# Altium schematic symbol library Conn_Molex_90120-0764_eec.SchLib: 1 symbol
Pins are listed as number, name and electrical type; pins without a type are passive.

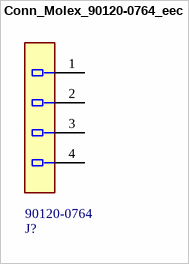
[diagram p0: symbol Conn_Molex_90120-0764_eec]

## Conn_Molex_90120-0764_eec
designator J?  Part Number: 90120-0764
CONN 4 Positions Header, Breakaway Connector 0.100" (2.54mm) Through Hole Gold; Manufacturer: Molex; Current - Maximum per Contact: 3.0A; Number of Positions: 4; Contact Length - Post: 2.90mm; Contact Length - Mating: 6.75mm; Voltage - Maximum: 350V; helpURL: https://upverter.com/upn/revision/abd89bfd3815e4cd/; ComponentLink2Description: Datasheet; Temperature: -55°C to +125°C; Package: HDR4; Supplier 2: Mouser; Supplier 1: Digi-Key; ComponentLink1URL: https://upverter.com/upn/revision/abd89bfd3815e4cd/; Supplier Part Number 2: 538-90120-0764; Supplier Part Number 1: WM8086-ND; ComponentLink1Description: Upverter; ComponentLink2URL: http://www.molex.com/pdm_docs/sd/901200764_sd.pdf; RoHS: TRUE; Mouser Part Number: 538-90120-0764; Temperature Range High: +125°C; Digikey Description: CONN 4 Positions Header, Breakaway Connector 0.100" (2.54mm) Through Hole Gold; Digikey Part Number: WM8086-ND; Insulation Height: 2.50mm; Lead Free: yes; Temperature Range Low: -55°C; Pitch: 2.54mm
footprint Molex_90120-0764_0
pins: 1, 2, 3, 4